# Altium schematic symbol library SnapEDAsch.SchLib: 1 symbol
Pins are listed as number, name and electrical type; pins without a type are passive.

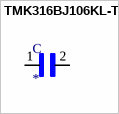
[diagram p0: symbol TMK316BJ106KL-T]

## TMK316BJ106KL-T
designator C
10ÂµF Â±10% 25V Ceramic Capacitor X5R 1206 _3216 Metric_; MF: Taiyo Yuden; MP: TMK316BJ106KL-T; SnapEDA_Link: https://www.snapeda.com/parts/TMK316BJ106KL-T/Taiyo%20Yuden/view-part/505818/?ref=snap; Availability: Unavailable; Value: *; Price: None; Package: 3216 Taiyo Yuden
footprint CAPC3216X180N
pins: 1, 2